# Altium schematic symbol library WE-SI.SchLib: 34 symbols
Pins are listed as number, name and electrical type; pins without a type are passive.

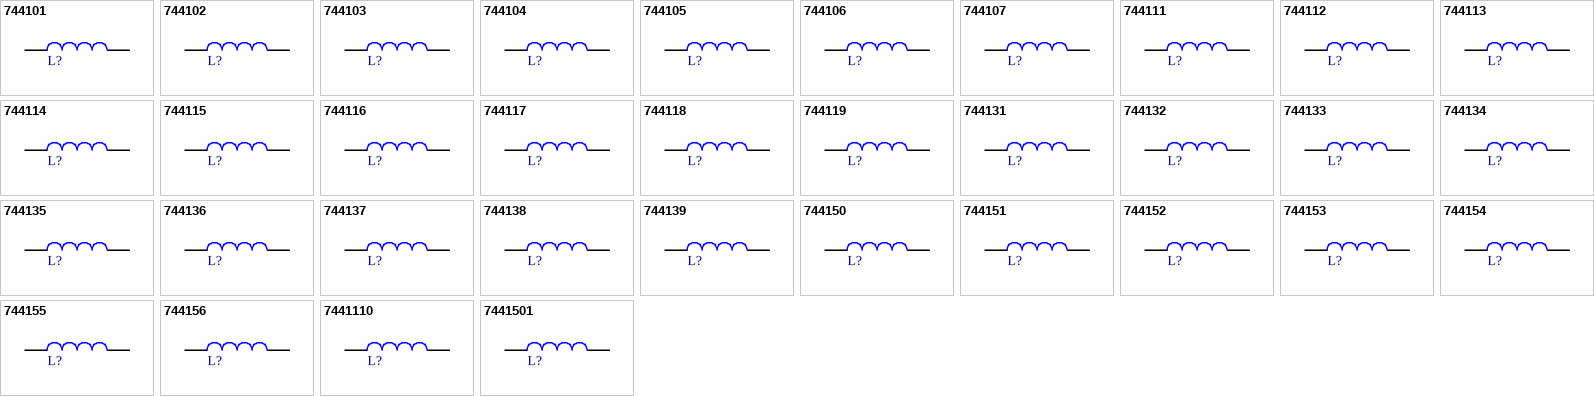
[diagram p0: symbols 744101 to 7441501]

## 744101
designator L?, comment 40µH, 1.7A  (value not drawn)
WE-SI THT Leaded Toroidal Storage Choke, size , 40µH, 1.7A, 0.18Ω; Manufacturer Part Number: 744101; Manufacturer: Wurth Elektronik; Saturation Current: 1.5A; Self Resonant Frequency: 19.1MHz; Category: Shielded Power Inductors; Match Code: WE-SI; ComponentLink1Description: Website Link; ComponentLink1URL: https://www.we-online.com/redexpert/article/744101?ad; ComponentLink2Description: Datasheet Link; ComponentLink2URL: https://www.we-online.com/redexpert/spec/744101?ad; Mount: Through Hole; Operating Temperature Max: 105°C; Operating Temperature Min: -40°C; Packaging: Tray; Length: 15mm; Width: 8.4mm; Height: 15mm; DC Resistance Max: 0.18Ω; Rated Current: 1.7A; Rated Inductance: 40µH
footprint 744101
simulation model 744101_50u
pins: 1, 2

## 744102
designator L?, comment 65µH, 1.4A  (value not drawn)
WE-SI THT Leaded Toroidal Storage Choke, size , 65µH, 1.4A, 0.23Ω; Manufacturer Part Number: 744102; Manufacturer: Wurth Elektronik; Saturation Current: 1.2A; Self Resonant Frequency: 14MHz; Category: Shielded Power Inductors; Match Code: WE-SI; ComponentLink1Description: Website Link; ComponentLink1URL: https://www.we-online.com/redexpert/article/744102?ad; ComponentLink2Description: Datasheet Link; ComponentLink2URL: https://www.we-online.com/redexpert/spec/744102?ad; Mount: Through Hole; Operating Temperature Max: 105°C; Operating Temperature Min: -40°C; Packaging: Tray; Length: 15mm; Width: 8mm; Height: 15mm; DC Resistance Max: 0.23Ω; Rated Current: 1.4A; Rated Inductance: 65µH
footprint 744102
simulation model 744102_73u
pins: 1, 2

## 744103
designator L?, comment 99µH, 1.3A  (value not drawn)
WE-SI THT Leaded Toroidal Storage Choke, size , 99µH, 1.3A, 0.3Ω; Manufacturer Part Number: 744103; Manufacturer: Wurth Elektronik; Saturation Current: 1A; Self Resonant Frequency: 9.2MHz; Category: Shielded Power Inductors; Match Code: WE-SI; ComponentLink1Description: Website Link; ComponentLink1URL: https://www.we-online.com/redexpert/article/744103?ad; ComponentLink2Description: Datasheet Link; ComponentLink2URL: https://www.we-online.com/redexpert/spec/744103?ad; Mount: Through Hole; Operating Temperature Max: 105°C; Operating Temperature Min: -40°C; Packaging: Tray; Length: 15mm; Width: 8.4mm; Height: 15mm; DC Resistance Max: 0.3Ω; Rated Current: 1.3A; Rated Inductance: 99µH
footprint 744103
simulation model 744103_109u
pins: 1, 2

## 744104
designator L?, comment 135µH, 1.35A  (value not drawn)
WE-SI THT Leaded Toroidal Storage Choke, size , 135µH, 1.35A, 0.4Ω; Manufacturer Part Number: 744104; Manufacturer: Wurth Elektronik; Saturation Current: 0.72A; Self Resonant Frequency: 4.1MHz; Category: Shielded Power Inductors; Match Code: WE-SI; ComponentLink1Description: Website Link; ComponentLink1URL: https://www.we-online.com/redexpert/article/744104?ad; ComponentLink2Description: Datasheet Link; ComponentLink2URL: https://www.we-online.com/redexpert/spec/744104?ad; Mount: Through Hole; Operating Temperature Max: 105°C; Operating Temperature Min: -40°C; Packaging: Tray; Length: 17.5mm; Width: 8mm; Height: 17.5mm; DC Resistance Max: 0.4Ω; Rated Current: 1.35A; Rated Inductance: 135µH
footprint 744104
simulation model 744104_167u
pins: 1, 2

## 744105
designator L?, comment 200µH, 1.2A  (value not drawn)
WE-SI THT Leaded Toroidal Storage Choke, size , 200µH, 1.2A, 0.4Ω; Manufacturer Part Number: 744105; Manufacturer: Wurth Elektronik; Saturation Current: 0.6A; Self Resonant Frequency: 3MHz; Category: Shielded Power Inductors; Match Code: WE-SI; ComponentLink1Description: Website Link; ComponentLink1URL: https://www.we-online.com/redexpert/article/744105?ad; ComponentLink2Description: Datasheet Link; ComponentLink2URL: https://www.we-online.com/redexpert/spec/744105?ad; Mount: Through Hole; Operating Temperature Max: 105°C; Operating Temperature Min: -40°C; Packaging: Tray; Length: 17.5mm; Width: 8.4mm; Height: 17.5mm; DC Resistance Max: 0.4Ω; Rated Current: 1.2A; Rated Inductance: 200µH
footprint 744105
simulation model 744105_258u
pins: 1, 2

## 744106
designator L?, comment 290µH, 1.1A  (value not drawn)
WE-SI THT Leaded Toroidal Storage Choke, size , 290µH, 1.1A, 0.7Ω; Manufacturer Part Number: 744106; Manufacturer: Wurth Elektronik; Saturation Current: 0.5A; Self Resonant Frequency: 2.1MHz; Category: Shielded Power Inductors; Match Code: WE-SI; ComponentLink1Description: Website Link; ComponentLink1URL: https://www.we-online.com/redexpert/article/744106?ad; ComponentLink2Description: Datasheet Link; ComponentLink2URL: https://www.we-online.com/redexpert/spec/744106?ad; Mount: Through Hole; Operating Temperature Max: 105°C; Operating Temperature Min: -40°C; Packaging: Tray; Length: 17.5mm; Width: 8.4mm; Height: 17.5mm; DC Resistance Max: 0.7Ω; Rated Current: 1.1A; Rated Inductance: 290µH
footprint 744106
simulation model 744106_393u
pins: 1, 2

## 744107
designator L?, comment 450µH, 1.1A  (value not drawn)
WE-SI THT Leaded Toroidal Storage Choke, size , 450µH, 1.1A, 0.7Ω; Manufacturer Part Number: 744107; Manufacturer: Wurth Elektronik; Saturation Current: 0.7A; Self Resonant Frequency: 2.5MHz; Category: Shielded Power Inductors; Match Code: WE-SI; ComponentLink1Description: Website Link; ComponentLink1URL: https://www.we-online.com/redexpert/article/744107?ad; ComponentLink2Description: Datasheet Link; ComponentLink2URL: https://www.we-online.com/redexpert/spec/744107?ad; Mount: Through Hole; Operating Temperature Max: 105°C; Operating Temperature Min: -40°C; Packaging: Tray; Length: 22.5mm; Width: 12.4mm; Height: 22.5mm; DC Resistance Max: 0.7Ω; Rated Current: 1.1A; Rated Inductance: 450µH
footprint 744107
simulation model 744107_557u
pins: 1, 2

## 744111
designator L?, comment 31µH, 3.1A  (value not drawn)
WE-SI THT Leaded Toroidal Storage Choke, size , 31µH, 3.1A, 0.06Ω; Manufacturer Part Number: 744111; Manufacturer: Wurth Elektronik; Saturation Current: 1.8A; Self Resonant Frequency: 23MHz; Category: Shielded Power Inductors; Match Code: WE-SI; ComponentLink1Description: Website Link; ComponentLink1URL: https://www.we-online.com/redexpert/article/744111?ad; ComponentLink2Description: Datasheet Link; ComponentLink2URL: https://www.we-online.com/redexpert/spec/744111?ad; Mount: Through Hole; Operating Temperature Max: 105°C; Operating Temperature Min: -40°C; Packaging: Tray; Length: 15.5mm; Width: 8.5mm; Height: 15.5mm; DC Resistance Max: 0.06Ω; Rated Current: 3.1A; Rated Inductance: 31µH
footprint 744111
simulation model 744111_37u
pins: 1, 2

## 744112
designator L?, comment 38µH, 3A  (value not drawn)
WE-SI THT Leaded Toroidal Storage Choke, size , 38µH, 3A, 0.08Ω; Manufacturer Part Number: 744112; Manufacturer: Wurth Elektronik; Saturation Current: 1.4A; Self Resonant Frequency: 16.8MHz; Category: Shielded Power Inductors; Match Code: WE-SI; ComponentLink1Description: Website Link; ComponentLink1URL: https://www.we-online.com/redexpert/article/744112?ad; ComponentLink2Description: Datasheet Link; ComponentLink2URL: https://www.we-online.com/redexpert/spec/744112?ad; Mount: Through Hole; Operating Temperature Max: 105°C; Operating Temperature Min: -40°C; Packaging: Tray; Length: 17mm; Width: 9.5mm; Height: 17mm; DC Resistance Max: 0.08Ω; Rated Current: 3A; Rated Inductance: 38µH
footprint 744112
simulation model 744112_53u
pins: 1, 2

## 744113
designator L?, comment 56µH, 2.5A  (value not drawn)
WE-SI THT Leaded Toroidal Storage Choke, size , 56µH, 2.5A, 0.1Ω; Manufacturer Part Number: 744113; Manufacturer: Wurth Elektronik; Saturation Current: 1A; Self Resonant Frequency: 6.5MHz; Category: Shielded Power Inductors; Match Code: WE-SI; ComponentLink1Description: Website Link; ComponentLink1URL: https://www.we-online.com/redexpert/article/744113?ad; ComponentLink2Description: Datasheet Link; ComponentLink2URL: https://www.we-online.com/redexpert/spec/744113?ad; Mount: Through Hole; Operating Temperature Max: 105°C; Operating Temperature Min: -40°C; Packaging: Tray; Length: 17mm; Width: 9.5mm; Height: 17mm; DC Resistance Max: 0.1Ω; Rated Current: 2.5A; Rated Inductance: 56µH
footprint 744113
simulation model 744113_80u
pins: 1, 2

## 744114
designator L?, comment 80µH, 2.3A  (value not drawn)
WE-SI THT Leaded Toroidal Storage Choke, size , 80µH, 2.3A, 0.12Ω; Manufacturer Part Number: 744114; Manufacturer: Wurth Elektronik; Saturation Current: 1A; Self Resonant Frequency: 4.8MHz; Category: Shielded Power Inductors; Match Code: WE-SI; ComponentLink1Description: Website Link; ComponentLink1URL: https://www.we-online.com/redexpert/article/744114?ad; ComponentLink2Description: Datasheet Link; ComponentLink2URL: https://www.we-online.com/redexpert/spec/744114?ad; Mount: Through Hole; Operating Temperature Max: 105°C; Operating Temperature Min: -40°C; Packaging: Tray; Length: 18mm; Width: 9.6mm; Height: 18mm; DC Resistance Max: 0.12Ω; Rated Current: 2.3A; Rated Inductance: 80µH
footprint 744114
simulation model 744114_127u
pins: 1, 2

## 744115
designator L?, comment 110µH, 2.2A  (value not drawn)
WE-SI THT Leaded Toroidal Storage Choke, size , 110µH, 2.2A, 0.18Ω; Manufacturer Part Number: 744115; Manufacturer: Wurth Elektronik; Saturation Current: 0.9A; Self Resonant Frequency: 3MHz; Category: Shielded Power Inductors; Match Code: WE-SI; ComponentLink1Description: Website Link; ComponentLink1URL: https://www.we-online.com/redexpert/article/744115?ad; ComponentLink2Description: Datasheet Link; ComponentLink2URL: https://www.we-online.com/redexpert/spec/744115?ad; Mount: Through Hole; Operating Temperature Max: 105°C; Operating Temperature Min: -40°C; Packaging: Tray; Length: 18mm; Width: 9.7mm; Height: 18mm; DC Resistance Max: 0.18Ω; Rated Current: 2.2A; Rated Inductance: 110µH
footprint 744115
simulation model 744115_200u
pins: 1, 2

## 744116
designator L?, comment 170µH, 2.1A  (value not drawn)
WE-SI THT Leaded Toroidal Storage Choke, size , 170µH, 2.1A, 0.2Ω; Manufacturer Part Number: 744116; Manufacturer: Wurth Elektronik; Saturation Current: 0.5A; Self Resonant Frequency: 1.8MHz; Category: Shielded Power Inductors; Match Code: WE-SI; ComponentLink1Description: Website Link; ComponentLink1URL: https://www.we-online.com/redexpert/article/744116?ad; ComponentLink2Description: Datasheet Link; ComponentLink2URL: https://www.we-online.com/redexpert/spec/744116?ad; Mount: Through Hole; Operating Temperature Max: 105°C; Operating Temperature Min: -40°C; Packaging: Tray; Length: 18mm; Width: 10.1mm; Height: 18mm; DC Resistance Max: 0.2Ω; Rated Current: 2.1A; Rated Inductance: 170µH
footprint 744116
simulation model 744116_345u
pins: 1, 2

## 744117
designator L?, comment 365µH, 2A  (value not drawn)
WE-SI THT Leaded Toroidal Storage Choke, size , 365µH, 2A, 0.25Ω; Manufacturer Part Number: 744117; Manufacturer: Wurth Elektronik; Saturation Current: 0.8A; Self Resonant Frequency: 1.8MHz; Category: Shielded Power Inductors; Match Code: WE-SI; ComponentLink1Description: Website Link; ComponentLink1URL: https://www.we-online.com/redexpert/article/744117?ad; ComponentLink2Description: Datasheet Link; ComponentLink2URL: https://www.we-online.com/redexpert/spec/744117?ad; Mount: Through Hole; Operating Temperature Max: 105°C; Operating Temperature Min: -40°C; Packaging: Tray; Length: 23mm; Width: 13.5mm; Height: 23mm; DC Resistance Max: 0.25Ω; Rated Current: 2A; Rated Inductance: 365µH
footprint 744117
simulation model 744117_390u
pins: 1, 2

## 744118
designator L?, comment 440µH, 2.2A  (value not drawn)
WE-SI THT Leaded Toroidal Storage Choke, size , 440µH, 2.2A, 0.33Ω; Manufacturer Part Number: 744118; Manufacturer: Wurth Elektronik; Saturation Current: 1.1A; Self Resonant Frequency: 1.3MHz; Category: Shielded Power Inductors; Match Code: WE-SI; ComponentLink1Description: Website Link; ComponentLink1URL: https://www.we-online.com/redexpert/article/744118?ad; ComponentLink2Description: Datasheet Link; ComponentLink2URL: https://www.we-online.com/redexpert/spec/744118?ad; Mount: Through Hole; Operating Temperature Max: 105°C; Operating Temperature Min: -40°C; Packaging: Tray; Length: 30mm; Width: 14mm; Height: 30mm; DC Resistance Max: 0.33Ω; Rated Current: 2.2A; Rated Inductance: 440µH
footprint 744118
simulation model 744118_600u
pins: 1, 2

## 744119
designator L?, comment 620µH, 2A  (value not drawn)
WE-SI THT Leaded Toroidal Storage Choke, size , 620µH, 2A, 0.4Ω; Manufacturer Part Number: 744119; Manufacturer: Wurth Elektronik; Saturation Current: 0.9A; Self Resonant Frequency: 0.85MHz; Category: Shielded Power Inductors; Match Code: WE-SI; ComponentLink1Description: Website Link; ComponentLink1URL: https://www.we-online.com/redexpert/article/744119?ad; ComponentLink2Description: Datasheet Link; ComponentLink2URL: https://www.we-online.com/redexpert/spec/744119?ad; Mount: Through Hole; Operating Temperature Max: 105°C; Operating Temperature Min: -40°C; Packaging: Tray; Length: 30mm; Width: 14mm; Height: 30mm; DC Resistance Max: 0.4Ω; Rated Current: 2A; Rated Inductance: 620µH
footprint 744119
simulation model 744119_890u
pins: 1, 2

## 744131
designator L?, comment 19µH, 5.2A  (value not drawn)
WE-SI THT Leaded Toroidal Storage Choke, size , 19µH, 5.2A, 0.038Ω; Manufacturer Part Number: 744131; Manufacturer: Wurth Elektronik; Saturation Current: 1.8A; Self Resonant Frequency: 11MHz; Category: Shielded Power Inductors; Match Code: WE-SI; ComponentLink1Description: Website Link; ComponentLink1URL: https://www.we-online.com/redexpert/article/744131?ad; ComponentLink2Description: Datasheet Link; ComponentLink2URL: https://www.we-online.com/redexpert/spec/744131?ad; Mount: Through Hole; Operating Temperature Max: 105°C; Operating Temperature Min: -40°C; Packaging: Tray; Length: 17mm; Width: 11mm; Height: 17mm; DC Resistance Max: 0.038Ω; Rated Current: 5.2A; Rated Inductance: 19µH
footprint 744131
simulation model 744131_34u
pins: 1, 2

## 744132
designator L?, comment 30µH, 5.8A  (value not drawn)
WE-SI THT Leaded Toroidal Storage Choke, size , 30µH, 5.8A, 0.05Ω; Manufacturer Part Number: 744132; Manufacturer: Wurth Elektronik; Saturation Current: 2.2A; Self Resonant Frequency: 16MHz; Category: Shielded Power Inductors; Match Code: WE-SI; ComponentLink1Description: Website Link; ComponentLink1URL: https://www.we-online.com/redexpert/article/744132?ad; ComponentLink2Description: Datasheet Link; ComponentLink2URL: https://www.we-online.com/redexpert/spec/744132?ad; Mount: Through Hole; Operating Temperature Max: 105°C; Operating Temperature Min: -40°C; Packaging: Tray; Length: 21mm; Width: 10.9mm; Height: 21mm; DC Resistance Max: 0.05Ω; Rated Current: 5.8A; Rated Inductance: 30µH
footprint 744132
simulation model 744132_49u
pins: 1, 2

## 744133
designator L?, comment 40µH, 5.8A  (value not drawn)
WE-SI THT Leaded Toroidal Storage Choke, size , 40µH, 5.8A, 0.04Ω; Manufacturer Part Number: 744133; Manufacturer: Wurth Elektronik; Saturation Current: 2A; Self Resonant Frequency: 15MHz; Category: Shielded Power Inductors; Match Code: WE-SI; ComponentLink1Description: Website Link; ComponentLink1URL: https://www.we-online.com/redexpert/article/744133?ad; ComponentLink2Description: Datasheet Link; ComponentLink2URL: https://www.we-online.com/redexpert/spec/744133?ad; Mount: Through Hole; Operating Temperature Max: 105°C; Operating Temperature Min: -40°C; Packaging: Tray; Length: 24mm; Width: 13.9mm; Height: 24mm; DC Resistance Max: 0.04Ω; Rated Current: 5.8A; Rated Inductance: 40µH
footprint 744133
simulation model 744133_75u
pins: 1, 2

## 744134
designator L?, comment 59µH, 5.4A  (value not drawn)
WE-SI THT Leaded Toroidal Storage Choke, size , 59µH, 5.4A, 0.05Ω; Manufacturer Part Number: 744134; Manufacturer: Wurth Elektronik; Saturation Current: 2.3A; Self Resonant Frequency: 9MHz; Category: Shielded Power Inductors; Match Code: WE-SI; ComponentLink1Description: Website Link; ComponentLink1URL: https://www.we-online.com/redexpert/article/744134?ad; ComponentLink2Description: Datasheet Link; ComponentLink2URL: https://www.we-online.com/redexpert/spec/744134?ad; Mount: Through Hole; Operating Temperature Max: 105°C; Operating Temperature Min: -40°C; Packaging: Tray; Length: 31mm; Width: 13.5mm; Height: 31mm; DC Resistance Max: 0.05Ω; Rated Current: 5.4A; Rated Inductance: 59µH
footprint 744134
simulation model 744134_92u
pins: 1, 2

## 744135
designator L?, comment 95µH, 5.1A  (value not drawn)
WE-SI THT Leaded Toroidal Storage Choke, size , 95µH, 5.1A, 0.063Ω; Manufacturer Part Number: 744135; Manufacturer: Wurth Elektronik; Saturation Current: 1.5A; Self Resonant Frequency: 3MHz; Category: Shielded Power Inductors; Match Code: WE-SI; ComponentLink1Description: Website Link; ComponentLink1URL: https://www.we-online.com/redexpert/article/744135?ad; ComponentLink2Description: Datasheet Link; ComponentLink2URL: https://www.we-online.com/redexpert/spec/744135?ad; Mount: Through Hole; Operating Temperature Max: 105°C; Operating Temperature Min: -40°C; Packaging: Tray; Length: 31mm; Width: 13.5mm; Height: 31mm; DC Resistance Max: 0.063Ω; Rated Current: 5.1A; Rated Inductance: 95µH
footprint 744135
simulation model 744135_157u
pins: 1, 2

## 744136
designator L?, comment 215µH, 3.8A  (value not drawn)
WE-SI THT Leaded Toroidal Storage Choke, size , 215µH, 3.8A, 0.14Ω; Manufacturer Part Number: 744136; Manufacturer: Wurth Elektronik; Saturation Current: 1.5A; Self Resonant Frequency: 3.3MHz; Category: Shielded Power Inductors; Match Code: WE-SI; ComponentLink1Description: Website Link; ComponentLink1URL: https://www.we-online.com/redexpert/article/744136?ad; ComponentLink2Description: Datasheet Link; ComponentLink2URL: https://www.we-online.com/redexpert/spec/744136?ad; Mount: Through Hole; Operating Temperature Max: 105°C; Operating Temperature Min: -40°C; Packaging: Tray; Length: 31mm; Width: 15.3mm; Height: 31mm; DC Resistance Max: 0.14Ω; Rated Current: 3.8A; Rated Inductance: 215µH
footprint 744136
simulation model 744136_346u
pins: 1, 2

## 744137
designator L?, comment 380µH, 3.1A  (value not drawn)
WE-SI THT Leaded Toroidal Storage Choke, size , 380µH, 3.1A, 0.175Ω; Manufacturer Part Number: 744137; Manufacturer: Wurth Elektronik; Saturation Current: 1A; Self Resonant Frequency: 1.5MHz; Category: Shielded Power Inductors; Match Code: WE-SI; ComponentLink1Description: Website Link; ComponentLink1URL: https://www.we-online.com/redexpert/article/744137?ad; ComponentLink2Description: Datasheet Link; ComponentLink2URL: https://www.we-online.com/redexpert/spec/744137?ad; Mount: Through Hole; Operating Temperature Max: 105°C; Operating Temperature Min: -40°C; Packaging: Tray; Length: 31mm; Width: 15.3mm; Height: 31mm; DC Resistance Max: 0.175Ω; Rated Current: 3.1A; Rated Inductance: 380µH
footprint 744137
simulation model 744137_630u
pins: 1, 2

## 744138
designator L?, comment 440µH, 3.5A  (value not drawn)
WE-SI THT Leaded Toroidal Storage Choke, size , 440µH, 3.5A, 0.24Ω; Manufacturer Part Number: 744138; Manufacturer: Wurth Elektronik; Saturation Current: 1.4A; Self Resonant Frequency: 1.8MHz; Category: Shielded Power Inductors; Match Code: WE-SI; ComponentLink1Description: Website Link; ComponentLink1URL: https://www.we-online.com/redexpert/article/744138?ad; ComponentLink2Description: Datasheet Link; ComponentLink2URL: https://www.we-online.com/redexpert/spec/744138?ad; Mount: Through Hole; Operating Temperature Max: 105°C; Operating Temperature Min: -40°C; Packaging: Tray; Length: 42mm; Width: 15mm; Height: 42mm; DC Resistance Max: 0.24Ω; Rated Current: 3.5A; Rated Inductance: 440µH
footprint 744138
simulation model 744138_727u
pins: 1, 2

## 744139
designator L?, comment 680µH, 3.4A  (value not drawn)
WE-SI THT Leaded Toroidal Storage Choke, size , 680µH, 3.4A, 0.28Ω; Manufacturer Part Number: 744139; Manufacturer: Wurth Elektronik; Saturation Current: 1A; Self Resonant Frequency: 0.65MHz; Category: Shielded Power Inductors; Match Code: WE-SI; ComponentLink1Description: Website Link; ComponentLink1URL: https://www.we-online.com/redexpert/article/744139?ad; ComponentLink2Description: Datasheet Link; ComponentLink2URL: https://www.we-online.com/redexpert/spec/744139?ad; Mount: Through Hole; Operating Temperature Max: 105°C; Operating Temperature Min: -40°C; Packaging: Tray; Length: 44mm; Width: 18.5mm; Height: 44mm; DC Resistance Max: 0.28Ω; Rated Current: 3.4A; Rated Inductance: 680µH
footprint 744139
simulation model 744139_1.124m
pins: 1, 2

## 744150
designator L?, comment 16µH, 10.3A  (value not drawn)
WE-SI THT Leaded Toroidal Storage Choke, size , 16µH, 10.3A, 0.015Ω; Manufacturer Part Number: 744150; Manufacturer: Wurth Elektronik; Saturation Current: 4A; Self Resonant Frequency: 25MHz; Category: Shielded Power Inductors; Match Code: WE-SI; ComponentLink1Description: Website Link; ComponentLink1URL: https://www.we-online.com/redexpert/article/744150?ad; ComponentLink2Description: Datasheet Link; ComponentLink2URL: https://www.we-online.com/redexpert/spec/744150?ad; Mount: Through Hole; Operating Temperature Max: 105°C; Operating Temperature Min: -40°C; Packaging: Tray; Length: 28.5mm; Width: 14.5mm; Height: 28.5mm; DC Resistance Max: 0.015Ω; Rated Current: 10.3A; Rated Inductance: 16µH
footprint 744150
simulation model 744150_26u
pins: 1, 2

## 744151
designator L?, comment 32µH, 8.1A  (value not drawn)
WE-SI THT Leaded Toroidal Storage Choke, size , 32µH, 8.1A, 0.025Ω; Manufacturer Part Number: 744151; Manufacturer: Wurth Elektronik; Saturation Current: 3A; Self Resonant Frequency: 13.6MHz; Category: Shielded Power Inductors; Match Code: WE-SI; ComponentLink1Description: Website Link; ComponentLink1URL: https://www.we-online.com/redexpert/article/744151?ad; ComponentLink2Description: Datasheet Link; ComponentLink2URL: https://www.we-online.com/redexpert/spec/744151?ad; Mount: Through Hole; Operating Temperature Max: 105°C; Operating Temperature Min: -40°C; Packaging: Tray; Length: 30mm; Width: 12.1mm; Height: 30mm; DC Resistance Max: 0.025Ω; Rated Current: 8.1A; Rated Inductance: 32µH
footprint 744151
simulation model 744151_48u
pins: 1, 2

## 744152
designator L?, comment 39µH, 7.7A  (value not drawn)
WE-SI THT Leaded Toroidal Storage Choke, size , 39µH, 7.7A, 0.03Ω; Manufacturer Part Number: 744152; Manufacturer: Wurth Elektronik; Saturation Current: 1.7A; Self Resonant Frequency: 5.4MHz; Category: Shielded Power Inductors; Match Code: WE-SI; ComponentLink1Description: Website Link; ComponentLink1URL: https://www.we-online.com/redexpert/article/744152?ad; ComponentLink2Description: Datasheet Link; ComponentLink2URL: https://www.we-online.com/redexpert/spec/744152?ad; Mount: Through Hole; Operating Temperature Max: 105°C; Operating Temperature Min: -40°C; Packaging: Tray; Length: 28mm; Width: 12.1mm; Height: 28mm; DC Resistance Max: 0.03Ω; Rated Current: 7.7A; Rated Inductance: 39µH
footprint 744152
simulation model 744152_82u
pins: 1, 2

## 744153
designator L?, comment 78µH, 7A  (value not drawn)
WE-SI THT Leaded Toroidal Storage Choke, size , 78µH, 7A, 0.05Ω; Manufacturer Part Number: 744153; Manufacturer: Wurth Elektronik; Saturation Current: 2A; Self Resonant Frequency: 6.4MHz; Category: Shielded Power Inductors; Match Code: WE-SI; ComponentLink1Description: Website Link; ComponentLink1URL: https://www.we-online.com/redexpert/article/744153?ad; ComponentLink2Description: Datasheet Link; ComponentLink2URL: https://www.we-online.com/redexpert/spec/744153?ad; Mount: Through Hole; Operating Temperature Max: 105°C; Operating Temperature Min: -40°C; Packaging: Tray; Length: 32mm; Width: 15.6mm; Height: 32mm; DC Resistance Max: 0.05Ω; Rated Current: 7A; Rated Inductance: 78µH
footprint 744153
simulation model 744153_137u
pins: 1, 2

## 744154
designator L?, comment 85µH, 6.5A  (value not drawn)
WE-SI THT Leaded Toroidal Storage Choke, size , 85µH, 6.5A, 0.055Ω; Manufacturer Part Number: 744154; Manufacturer: Wurth Elektronik; Saturation Current: 2A; Self Resonant Frequency: 3.1MHz; Category: Shielded Power Inductors; Match Code: WE-SI; ComponentLink1Description: Website Link; ComponentLink1URL: https://www.we-online.com/redexpert/article/744154?ad; ComponentLink2Description: Datasheet Link; ComponentLink2URL: https://www.we-online.com/redexpert/spec/744154?ad; Mount: Through Hole; Operating Temperature Max: 105°C; Operating Temperature Min: -40°C; Packaging: Tray; Length: 32mm; Width: 16.5mm; Height: 32mm; DC Resistance Max: 0.055Ω; Rated Current: 6.5A; Rated Inductance: 85µH
footprint 744154
simulation model 744154_172u
pins: 1, 2

## 744155
designator L?, comment 120µH, 7.1A  (value not drawn)
WE-SI THT Leaded Toroidal Storage Choke, size , 120µH, 7.1A, 0.06Ω; Manufacturer Part Number: 744155; Manufacturer: Wurth Elektronik; Saturation Current: 2A; Self Resonant Frequency: 4.7MHz; Category: Shielded Power Inductors; Match Code: WE-SI; ComponentLink1Description: Website Link; ComponentLink1URL: https://www.we-online.com/redexpert/article/744155?ad; ComponentLink2Description: Datasheet Link; ComponentLink2URL: https://www.we-online.com/redexpert/spec/744155?ad; Mount: Through Hole; Operating Temperature Max: 105°C; Operating Temperature Min: -40°C; Packaging: Tray; Length: 43mm; Width: 15.7mm; Height: 43mm; DC Resistance Max: 0.06Ω; Rated Current: 7.1A; Rated Inductance: 120µH
footprint 744155
simulation model 744155_220u
pins: 1, 2

## 744156
designator L?, comment 200µH, 6.2A  (value not drawn)
WE-SI THT Leaded Toroidal Storage Choke, size , 200µH, 6.2A, 0.07Ω; Manufacturer Part Number: 744156; Manufacturer: Wurth Elektronik; Saturation Current: 2A; Self Resonant Frequency: 1.5MHz; Category: Shielded Power Inductors; Match Code: WE-SI; ComponentLink1Description: Website Link; ComponentLink1URL: https://www.we-online.com/redexpert/article/744156?ad; ComponentLink2Description: Datasheet Link; ComponentLink2URL: https://www.we-online.com/redexpert/spec/744156?ad; Mount: Through Hole; Operating Temperature Max: 105°C; Operating Temperature Min: -40°C; Packaging: Tray; Length: 44mm; Width: 16.1mm; Height: 44mm; DC Resistance Max: 0.07Ω; Rated Current: 6.2A; Rated Inductance: 200µH
footprint 744156
simulation model 744156_380u
pins: 1, 2

## 7441110
designator L?, comment 1020µH, 1.8A  (value not drawn)
WE-SI THT Leaded Toroidal Storage Choke, size , 1020µH, 1.8A, 0.48Ω; Manufacturer Part Number: 7441110; Manufacturer: Wurth Elektronik; Saturation Current: 0.7A; Self Resonant Frequency: 0.5MHz; Category: Shielded Power Inductors; Match Code: WE-SI; ComponentLink1Description: Website Link; ComponentLink1URL: https://www.we-online.com/redexpert/article/7441110?ad; ComponentLink2Description: Datasheet Link; ComponentLink2URL: https://www.we-online.com/redexpert/spec/7441110?ad; Mount: Through Hole; Operating Temperature Max: 105°C; Operating Temperature Min: -40°C; Packaging: Tray; Length: 30mm; Width: 14.5mm; Height: 30mm; DC Resistance Max: 0.48Ω; Rated Current: 1.8A; Rated Inductance: 1020µH
footprint 7441110
simulation model 7441110_1.619m
pins: 1, 2

## 7441501
designator L?, comment 7µH, 14.5A  (value not drawn)
WE-SI THT Leaded Toroidal Storage Choke, size , 7µH, 14.5A, 0.008Ω; Manufacturer Part Number: 7441501; Manufacturer: Wurth Elektronik; Saturation Current: 6.9A; Self Resonant Frequency: 44.6MHz; Category: Shielded Power Inductors; Match Code: WE-SI; ComponentLink1Description: Website Link; ComponentLink1URL: https://www.we-online.com/redexpert/article/7441501?ad; ComponentLink2Description: Datasheet Link; ComponentLink2URL: https://www.we-online.com/redexpert/spec/7441501?ad; Mount: Through Hole; Operating Temperature Max: 105°C; Operating Temperature Min: -40°C; Packaging: Tray; Length: 28.5mm; Width: 14.5mm; Height: 28.5mm; DC Resistance Max: 0.008Ω; Rated Current: 14.5A; Rated Inductance: 7µH
footprint 7441501
simulation model 7441501_12u
pins: 1, 2